# Altium footprint library LED_ASMT-YTD7-0AA02.PcbLib: 1 footprints
Each footprint in its own frame and in the unit in brackets; x right, y up, seen from the top. Pads: shape width x height; smd on the part's side, far side on the other; paste and mask are expansions set on the pad; w line width, h text height; cw(c..) or ccw(c..) is an arc to the next point about the centre after c.
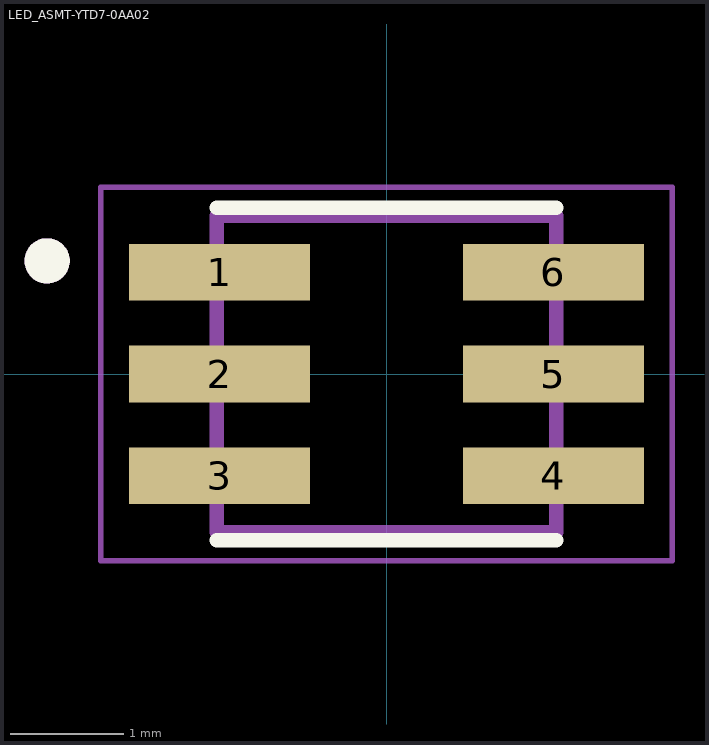
[diagram p0: the footprint, top view; thin cyan lines are the x and y axes]

## LED_ASMT-YTD7-0AA02 [mm]
pads (6):
  rect 1.6x0.5 smd: 1(-1.475,0.9) 2(-1.475,0) 3(-1.475,-0.9) 4(1.475,-0.9) 5(1.475,0) 6(1.475,0.9)
Top Overlay:
  circle w0.2: c-3,1 r0.1
  lines w0.127: -1.5,-1.47 1.5,-1.47 ; -1.5,1.47 1.5,1.47
Mechanical 13:
  circle w0.2: c-3,1 r0.1
  lines w0.127: -1.5,-1.4 1.5,-1.4 1.5,1.4 -1.5,1.4 -1.5,-1.4
Mechanical 15:
  lines w0.05: -2.525,-1.65 -2.525,1.65 2.525,1.65 2.525,-1.65 -2.525,-1.65